# Altium footprint library Safety_Lock.PcbLib: 40 footprints (part 3 of 3)
Each footprint in its own frame and in the unit in brackets; x right, y up, seen from the top. Pads: shape width x height; smd on the part's side, far side on the other; paste and mask are expansions set on the pad; w line width, h text height; cw(c..) or ccw(c..) is an arc to the next point about the centre after c.
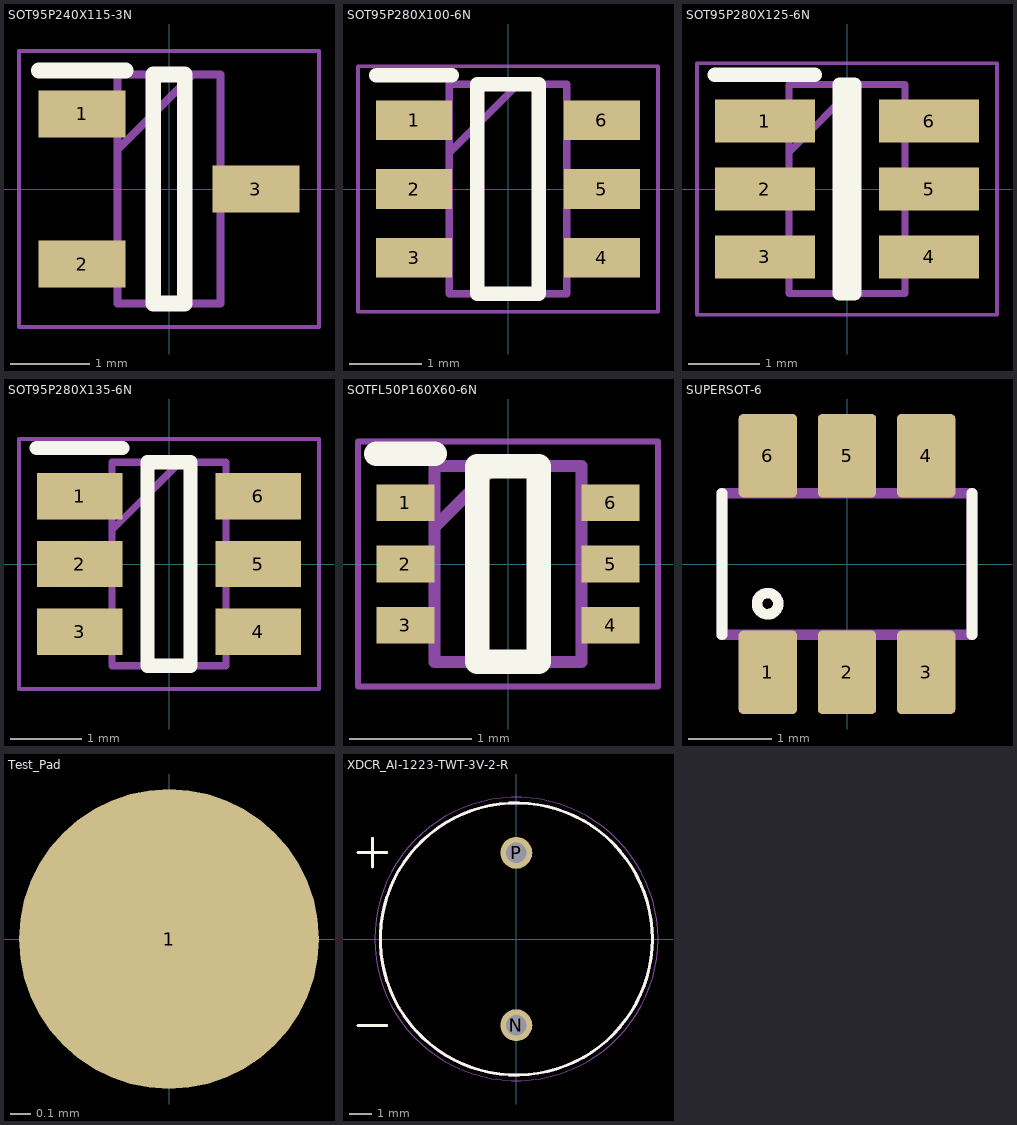
[diagram p2: the footprints below, top view; thin cyan lines are the x and y axes]

## SOT95P240X115-3N [mm]
pads (3):
  rect 1.1x0.6 smd: 1(-1.1,0.95) 2(-1.1,-0.95) 3(1.1,0)
Top Overlay:
  lines w0.2: -1.65,1.5 -0.55,1.5 ; -0.2,-1.45 0.2,-1.45 0.2,1.45 -0.2,1.45 -0.2,-1.45
Mechanical 13:
  lines w0.1: -0.65,0.5 0.3,1.45 ; -0.65,-1.45 0.65,-1.45 0.65,1.45 -0.65,1.45 -0.65,-1.45
Mechanical 15:
  lines w0.05: -1.9,-1.75 1.9,-1.75 1.9,1.75 -1.9,1.75 -1.9,-1.75
3D body "MMBT2222A-G.stp": height 1.15, standoff 0, extent -1.2,-1.45 1.2,1.45

## SOT95P280X100-6N [mm]
pads (6):
  rect 1.05x0.55 smd: 1(-1.3,0.95) 2(-1.3,0) 3(-1.3,-0.95) 4(1.3,-0.95) 5(1.3,0) 6(1.3,0.95)
Top Overlay:
  lines w0.2: -1.825,1.575 -0.775,1.575 ; -0.425,-1.45 -0.425,1.45 0.425,1.45 0.425,-1.45 -0.425,-1.45
Mechanical 13:
  lines w0.1: -0.812,0.5 0.138,1.45 ; -0.812,-1.45 -0.812,1.45 0.812,1.45 0.812,-1.45 -0.812,-1.45
Mechanical 15:
  lines w0.05: -2.075,-1.7 -2.075,1.7 2.075,1.7 2.075,-1.7 -2.075,-1.7
3D body "LTC4412HVIS6#TRMPBF.stp": height 1, standoff 0, extent -1.4,-1.45 1.4,1.45

## SOT95P280X125-6N [mm]
pads (6):
  rect 1.4x0.6 smd: 1(-1.15,0.95) 2(-1.15,0) 3(-1.15,-0.95) 4(1.15,-0.95) 5(1.15,0) 6(1.15,0.95)
Top Overlay:
  lines w0.2: -1.85,1.6 -0.45,1.6 ; -0.1,-1.463 -0.1,1.463 0.1,1.463 0.1,-1.463 -0.1,-1.463
Mechanical 13:
  lines w0.1: -0.813,0.513 0.137,1.463 ; -0.813,-1.463 -0.813,1.463 0.813,1.463 0.813,-1.463 -0.813,-1.463
Mechanical 15:
  lines w0.05: -2.1,-1.763 -2.1,1.763 2.1,1.763 2.1,-1.763 -2.1,-1.763
3D body "TP4057-42-SOT26-R.stp": height 1.25, standoff 0, extent -1.4,-1.463 1.4,1.463

## SOT95P280X135-6N [mm]
pads (6):
  rect 1.2x0.65 smd: 1(-1.25,0.95) 2(-1.25,0) 3(-1.25,-0.95) 4(1.25,-0.95) 5(1.25,0) 6(1.25,0.95)
Top Overlay:
  lines w0.2: -1.85,1.625 -0.65,1.625 ; -0.3,-1.425 0.3,-1.425 0.3,1.425 -0.3,1.425 -0.3,-1.425
Mechanical 13:
  lines w0.1: -0.8,0.475 0.15,1.425 ; -0.8,-1.425 0.8,-1.425 0.8,1.425 -0.8,1.425 -0.8,-1.425
Mechanical 15:
  lines w0.05: -2.1,-1.75 2.1,-1.75 2.1,1.75 -2.1,1.75 -2.1,-1.75
3D body "DW01A-G.stp": height 1.35, standoff 0, extent -1.4,-1.425 1.4,1.425

## SOTFL50P160X60-6N [mm]
pads (6):
  rect 0.475x0.3 smd: 1(-0.838,0.5) 2(-0.838,0) 3(-0.838,-0.5) 4(0.838,-0.5) 5(0.838,0) 6(0.838,0.5)
Top Overlay:
  lines w0.2: -1.075,0.9 -0.6,0.9 ; -0.25,-0.8 -0.25,0.8 0.25,0.8 0.25,-0.8 -0.25,-0.8
Mechanical 13:
  lines w0.1: -0.6,0.3 -0.1,0.8 ; -0.6,-0.8 -0.6,0.8 0.6,0.8 0.6,-0.8 -0.6,-0.8
Mechanical 15:
  lines w0.05: -1.225,-1 -1.225,1 1.225,1 1.225,-1 -1.225,-1
3D body "TPS61023DRLR.stp": height 0.6, standoff 0, extent -0.8,-0.8 0.8,0.8

## SUPERSOT-6 [mm]
pads (6):
  rrect15% 0.7x1 smd: 1(-0.95,-1.3) 2(0,-1.3) 3(0.95,-1.3) 4(0.95,1.3) 5(0,1.3) 6(-0.95,1.3)
Top Overlay:
  circle w0.127: c-0.953,-0.476 r0.127
  lines w0.127: -1.5,-0.85 -1.5,0.85 ; 1.5,-0.85 1.5,0.85
Mechanical 13:
  lines w0.127: -1.5,-0.85 -1.5,0.85 1.5,0.85 1.5,-0.85 -1.5,-0.85
3D body "LTC3542IS6#TRMPBF.STEP": height 1, standoff 0, extent -1.45,-1.4 1.45,1.4

## Test_Pad [mm]
pads (1):
  round 1.5 smd paste-0.75 mask+0.051: 1(0,0)

## XDCR_AI-1223-TWT-3V-2-R [mm]
pads (2):
  round 1.408 hole 0.9: N(0,-3.8) P(0,3.8)
Top Overlay:
  circle w0.127: c0,0 r6
  lines w0.127: -6.985,-3.81 -5.715,-3.81 ; -6.985,3.81 -5.715,3.81 ; -6.35,3.175 -6.35,4.445
Mechanical 13:
  circle w0.127: c0,0 r6
  lines w0.127: -6.985,-3.81 -5.715,-3.81 ; -6.985,3.81 -5.715,3.81 ; -6.35,3.175 -6.35,4.445
Mechanical 15:
  circle w0.05: c0,0 r6.25
3D body "step_temp.STEP": height 7.65, standoff -6.4, extent -6.013,-6.025 5.987,7.414